# EAGLE library part 0878980624 (library 0878980624)
CONN HEADER SMD 6POS 2.54MM Source: Datasheet <https://www.molex.com/pdm_docs/sd/878980624_sd.pdf>
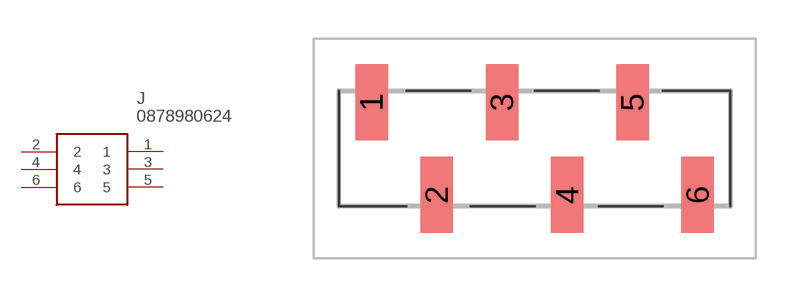
[diagram p0: symbol with the pads of 0878980624; footprint 0878980624]

Designator prefix J

## 0878980624 (Arrow_Part_Number: 0878980624; Arrow_Price-Stock: https://www.arrow.com/en/products/0878980624/molex; Description: CONN HEADER SMD 6POS 2.54MM; Height: 11.01mm; Manufacturer_Name: Molex; Manufacturer_Part_Number: 0878980624)  [0878980624]
1  1
2  2
3  3
4  4
5  5
6  6

## Footprint 0878980624 (pad centres in mm)
0878980624-2
smd 1.27 x 2.96: 1 -6.35,1.8; 2 -3.81,-1.8; 3 -1.27,1.8; 4 1.27,-1.8; 5 3.81,1.8; 6 6.35,-1.8